# Altium schematic symbol library AP7333-18SAG-7.SchLib: 1 symbol
Pins are listed as number, name and electrical type; pins without a type are passive.

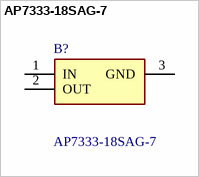
[diagram p0: symbol AP7333-18SAG-7]

## AP7333-18SAG-7
designator B?
Diodes Inc AP7333-18SAG-7, Single Linear Voltage Regulator, 300mA 1.8 V, +/-2%, 3-Pin SOT-23; Manufacturer_Name: Diodes Inc.; Geometry.Height: 1.35mm; Manufacturer_Part_Number: AP7333-18SAG-7; Mouser Part Number: 621-AP7333-18SAG-7; Mouser Price/Stock: https://www.mouser.co.uk/ProductDetail/Diodes-Incorporated/AP7333-18SAG-7?qs=vIZ3oKQCLxpEALu0NaomtQ%3D%3D; Arrow Part Number: AP7333-18SAG-7; Arrow Price/Stock: https://www.arrow.com/en/products/ap7333-18sag-7/diodes-incorporated?region=nac; Datasheet Link: https://www.diodes.com/assets/Datasheets/AP7333.pdf
footprint SOT96P240X135-3N
pins: 1 IN, 2 OUT, 3 GND